# Altium footprint library SMD_Capacitor_Footprints.PcbLib: 6 footprints
Each footprint in its own frame and in the unit in brackets; x right, y up, seen from the top. Pads: shape width x height; smd on the part's side, far side on the other; paste and mask are expansions set on the pad; w line width, h text height; cw(c..) or ccw(c..) is an arc to the next point about the centre after c.
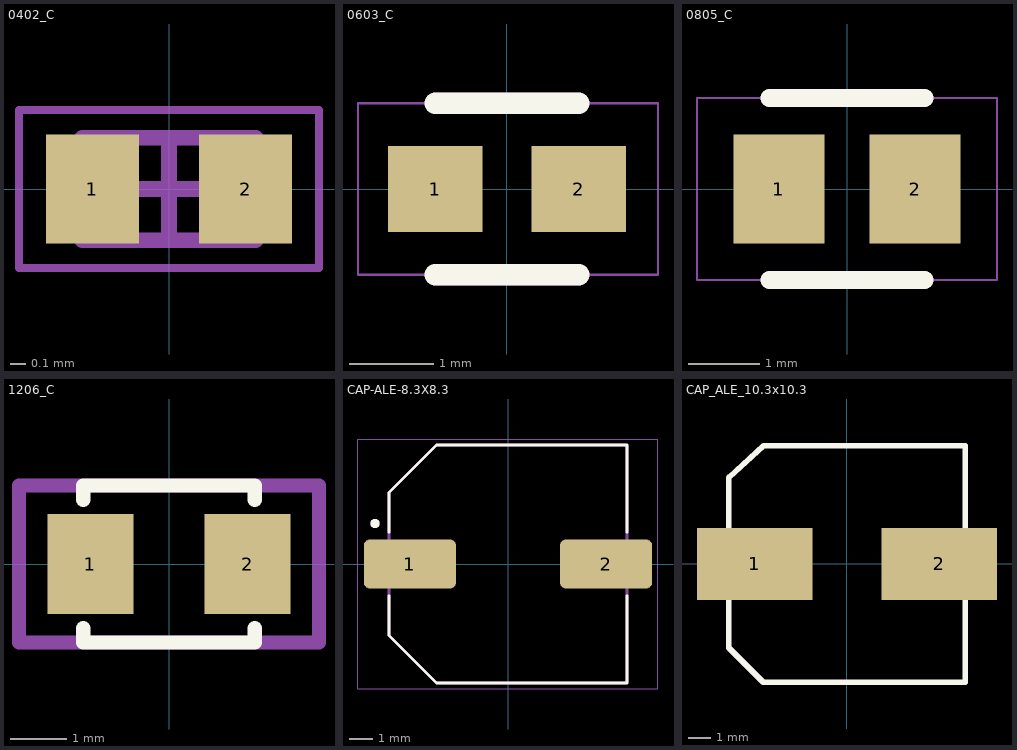
[diagram p0: the footprints below, top view; thin cyan lines are the x and y axes]

## 0402_C [mm] "Chip Capacitor, 0402"
height 0.6
pads (2):
  rect 0.59x0.69 smd: 1(-0.485,0) 2(0.485,0)
Top Assembly:
  lines w0.1: -0.55,-0.325 0.55,-0.325 0.55,0.325 -0.55,0.325 -0.55,-0.325
Mechanical 15:
  lines w0.05: -0.95,-0.5 0.95,-0.5 0.95,0.5 -0.95,0.5 -0.95,-0.5
  lines w0.1: -0.325,0 0.325,0 ; 0,-0.325 0,0.325
3D body: height 0.6, standoff 0, extent 0.32,-0.325 0.55,0.325
3D body: height 0.6, standoff 0, extent -0.55,-0.325 -0.32,0.325
3D body "C_0402_1005Metric.step": height 0.5, standoff 0, extent -0.5,-0.25 0.5,0.25

## 0603_C [mil] "Chip Capacitor, 0603"
pads (2):
  rect 44x40 smd: 1(-33.5,0) 2(33.5,0)
Top Overlay:
  lines w10: -33.5,-40 33.5,-40 ; -33.5,40 33.5,40
Top Assembly:
  lines w10: -33.5,-40 33.5,-40 ; -33.5,40 33.5,40
Mechanical 14:
  lines w10: -33.5,-40 33.5,-40 ; -33.5,40 33.5,40
Mechanical 20:
  lines w1: -69.5,-40 -69.5,40 70.5,40 70.5,-40 -69.5,-40
3D body "C_0603_1608Metric.step": height 31.5, standoff 0, extent -29.14,-15.75 33.85,15.75

## 0805_C [mil] "0805 Capacitor"
pads (2):
  rect 50x60 smd: 1(-37.5,0) 2(37.5,0)
Top Overlay:
  lines w10: -42.5,-50 42.5,-50 ; -42.5,50 42.5,50
Top Assembly:
  lines w10: -42.5,-50 42.5,-50 ; -42.5,50 42.5,50
Mechanical 16:
  lines w1: -82.5,-50 -82.5,50 82.5,50 82.5,-50 -82.5,-50
3D body "C_0805_2012Metric.step": height 49.21, standoff 0, extent -39.37,-24.61 39.37,24.61

## 1206_C [mil]
height 0.07
pads (2):
  rect 60x70 smd: 1(-55,0) 2(55,0)
Top Overlay:
  lines w10: -60,-45 -60,-55 60,-55 60,-45 ; -60,45 -60,55 60,55 60,45
Top Assembly:
  lines w10: -105,-55 -105,55 105,55 105,-55 -105,-55
3D body "C_1206_3216Metric.step": height 62.99, standoff 0, extent -62.99,-31.5 62.99,31.5

## CAP-ALE-8.3X8.3 [mm]
pads (2):
  rrect25% 3.99x2.12 smd: 1(-4.24,0) 2(4.24,0)
Top Overlay:
  circle w0.2: c-5.75,1.75 r0.1
  lines w0.127: -5.15,-1.374 -5.15,-3.09 -3.09,-5.15 5.15,-5.15 5.15,-1.374 ; -5.15,1.374 -5.15,3.09 -3.09,5.15 5.15,5.15 5.15,1.374
Mechanical 13:
  circle w0.2: c-5.75,1.75 r0.1
  lines w0.127: -5.15,-3.09 -3.09,-5.15 5.15,-5.15 5.15,5.15 -3.09,5.15 -5.15,3.09 -5.15,-3.09
Mechanical 15:
  lines w0.05: -6.485,-5.4 6.485,-5.4 6.485,5.4 -6.485,5.4 -6.485,-5.4
3D body "step_temp.STEP": height 10.5, standoff -0.3, extent -4.45,-4.15 4.45,4.15

## CAP_ALE_10.3x10.3 [mil]
pads (2):
  rect 200x125 smd: 1(-160,0) 2(160,0)
Top Overlay:
  lines w10: -205,150 -205,-145 -145,-205 205,-205 205,205 -144.38,205 -204.38,150
3D body "CP_Elec_10x10.step": height 393.7, standoff 0, extent -236.22,-202.76 236.22,202.76